# EAGLE library part BMD-350-A-R (library BMD-350-A-R)
Mod Ble 4.2 Nordic Nrf52832 Soc
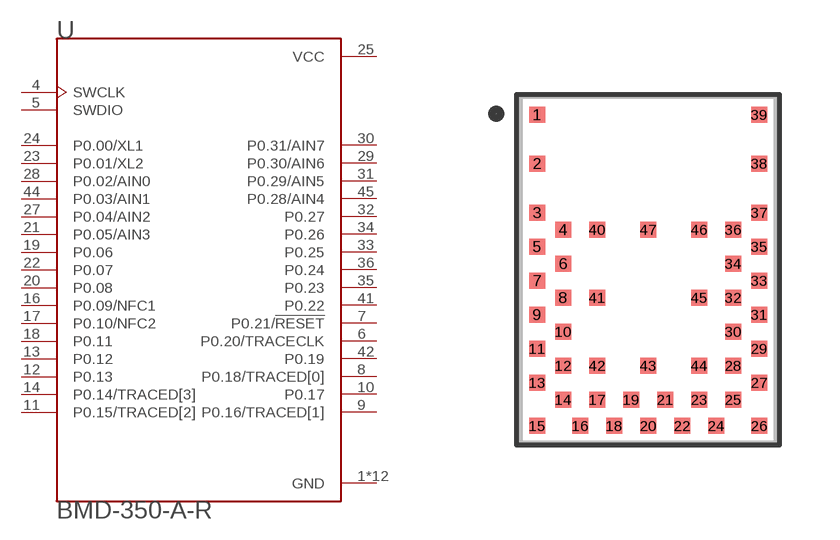
[diagram p0: symbol with the pads of XCVR_BMD-350-A-R; footprint XCVR_BMD-350-A-R]

Designator prefix U

## BMD-350-A-R (Description: Bluetooth Bluetooth v5.0 Transceiver Module 2.4GHz Integrated, Trace Surface Mount; Digi-Key_Part_Number: 672-BMD-350-A-RCT-ND; MF: U-Blox; MP: BMD-350-A-R; Package: None; Purchase-URL: https://pricing.snapeda.com/search/part/BMD-350-A-R/?ref=eda)  [XCVR_BMD-350-A-R]
1  GND  pwr
2  GND  pwr
3  GND  pwr
4  SWCLK  in
5  SWDIO
6  P0.20/TRACECLK
7  P0.21/!RESET!
8  P0.18/TRACED[0]
9  P0.16/TRACED[1]
10  P0.17
11  P0.15/TRACED[2]
12  P0.13
13  P0.12
14  P0.14/TRACED[3]
15  GND  pwr
16  P0.09/NFC1
17  P0.10/NFC2
18  P0.11
19  P0.06
20  P0.08
21  P0.05/AIN3
22  P0.07
23  P0.01/XL2
24  P0.00/XL1
25  VCC  pwr
26  GND  pwr
27  P0.04/AIN2
28  P0.02/AIN0
29  P0.30/AIN6
30  P0.31/AIN7
31  P0.29/AIN5
32  P0.27
33  P0.25
34  P0.26
35  P0.23
36  P0.24
37  GND  pwr
38  GND  pwr
39  GND  pwr
40  GND  pwr
41  P0.22
42  P0.19
43  GND  pwr
44  P0.03/AIN1
45  P0.28/AIN4
46  GND  pwr
47  GND  pwr

## Footprint XCVR_BMD-350-A-R (pad centres in mm)
smd 0.4 x 0.4: 1 -2.775,3.873; 2 -2.775,2.653; 3 -2.775,1.425; 4 -2.125,1; 5 -2.775,0.575; 6 -2.125,0.15; 7 -2.775,-0.275; 8 -2.125,-0.7; 9 -2.775,-1.125; 10 -2.125,-1.55; 11 -2.775,-1.975; 12 -2.125,-2.4; 13 -2.775,-2.825; 14 -2.125,-3.25; 15 -2.775,-3.905; 16 -1.7,-3.905; 17 -1.275,-3.25; 18 -0.85,-3.905; 19 -0.425,-3.25; 20 0,-3.905; 21 0.425,-3.25; 22 0.85,-3.905; 23 1.275,-3.25; 24 1.7,-3.905; 25 2.125,-3.25; 26 2.775,-3.905; 27 2.775,-2.825; 28 2.125,-2.4; 29 2.775,-1.975; 30 2.125,-1.55; 31 2.775,-1.125; 32 2.125,-0.7; 33 2.775,-0.275; 34 2.125,0.15; 35 2.775,0.575; 36 2.125,1; 37 2.775,1.425; 38 2.775,2.653; 39 2.775,3.873; 40 -1.275,1; 41 -1.275,-0.7; 42 -1.275,-2.4; 43 0,-2.4; 44 1.275,-2.4; 45 1.275,-0.7; 46 1.275,1; 47 0,1